# Altium schematic symbol library kmilo17pet-TI_LDO_400_7500.SchLib: 1409 symbols (part 34 of 60)
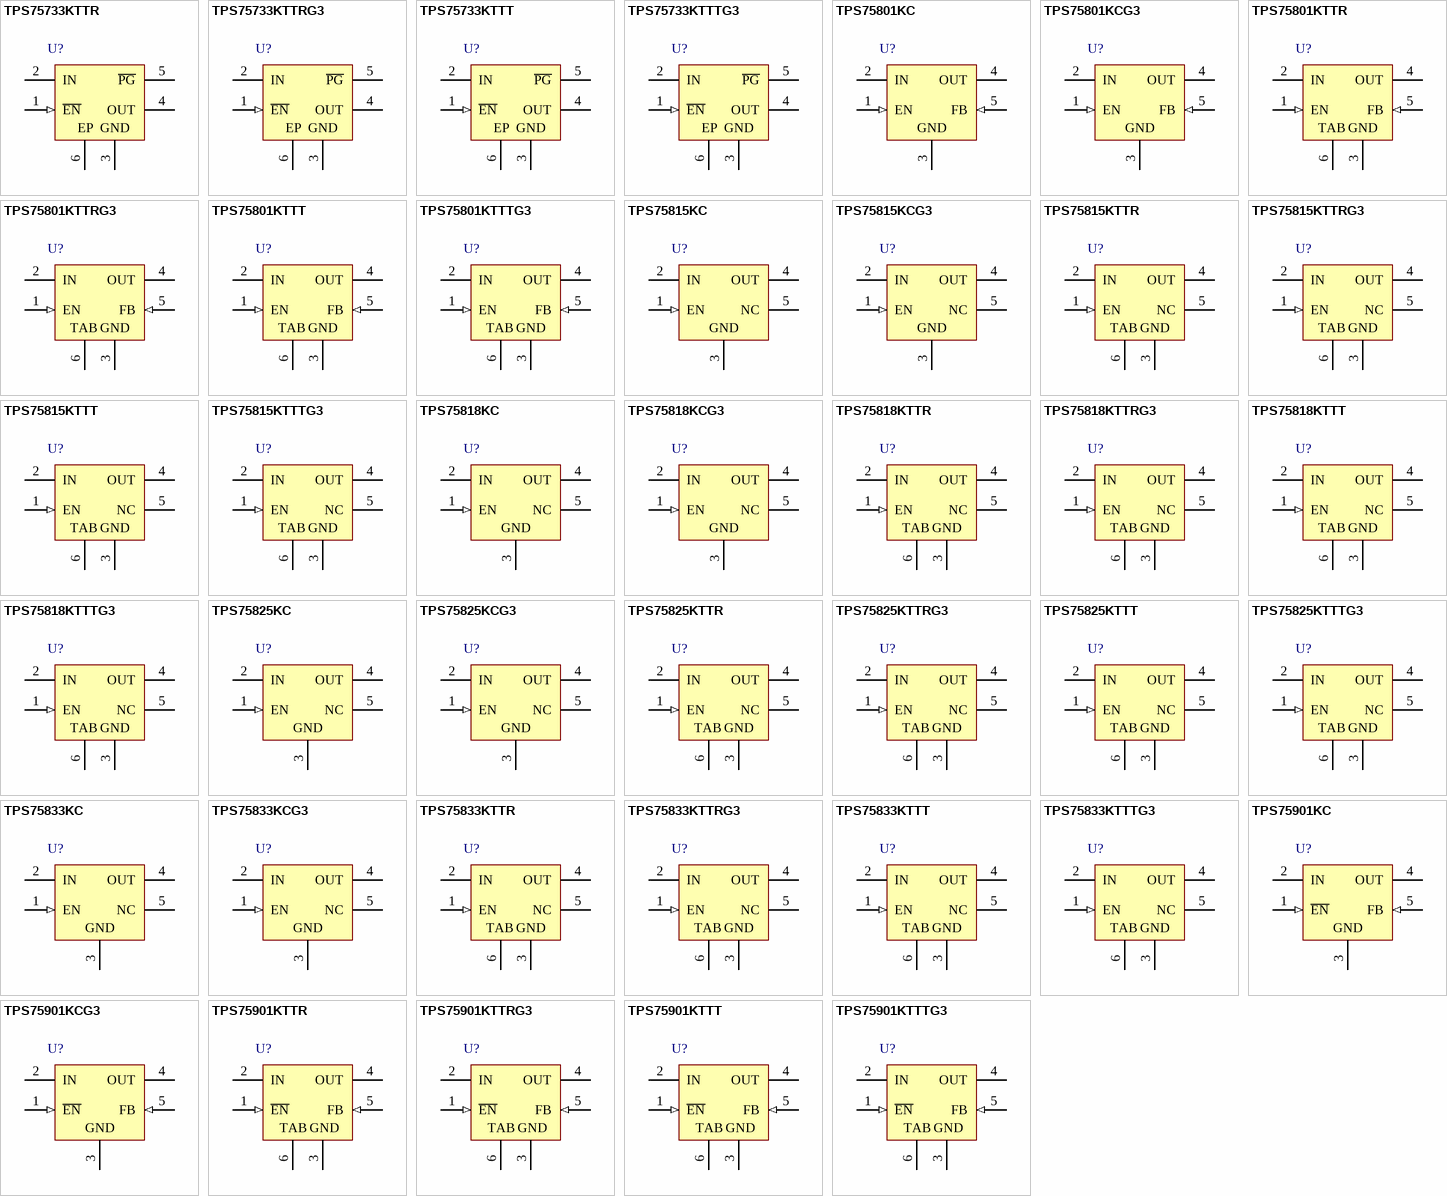
[diagram p83: symbols TPS75733KTTR to TPS75901KTTTG3]

## TPS75825KTTT
designator U?
Single Output Fast Transient Response LDO, 3 A, Fixed 2.5 V Output, 2.8 to 5.5 V Input, with Low IQ, 5-pin DDPAK (KTT), -40 to 125 degC, Green (RoHS & no Sb/Br); Manufacturer: Texas Instruments; PartNumber: TPS75825KTTT; Accuracy(%): 3; Fixed Output Options(V): 2.5; Iq(Typ)(mA): 0.12; SubFamily: Single Channel LDO; Vdo(Typ)(mV): 150; Vin(Max)(V): 5.5; Vin(Min)(V): 2.8; DatasheetVersion: SLVS330F; PackageVersion: 4200577-3/F; PackageReference: KTT5; PackageDescription: 3-Pin Plastic Flange Mount, Body 10.16 x 10.34 mm, Pitch 1.7 mm; Supplier 1: Digi-Key; Supplier Part Number 1: 296-15928-2-ND; Supplier 2: Digi-Key; Supplier Part Number 2: 296-15928-1-ND; Supplier 3: Digi-Key; Supplier Part Number 3: 296-15928-6-ND; Supplier 4: Newark; Supplier Part Number 4: 87H2999; Supplier 5: Mouser; Supplier Part Number 5: 595-TPS75825KTTT; Eco-Plan: Green (RoHS & no Sb/Br); Iout(Max)(A): 3; Vout Adj(Max)(V): 2.5; Vout Adj(Min)(V): 2.5; Mounting Technology: Surface Mount; Code_JEDEC: TO-263; ComponentLink1Description: Manufacturer URL; ComponentLink1URL: http://www.ti.com/; ComponentLink2Description: Datasheet; ComponentLink2URL: http://www.ti.com/general/docs/lit/getliterature.tsp?genericPartNumber=TPS75825&fileType=pdf; ComponentLink3Description: Package Specification; ComponentLink3URL: http://www.ti.com/litv/pdf/mpsf007e
footprint TI-KTT5_N (DPAK, 5-Leads, Body 10.16x8.925mm, Pitch 1.7mm, IPC Medium Density)
footprint TI-KTT5_L (DPAK, 5-Leads, Body 10.16x8.925mm, Pitch 1.7mm, IPC High Density)
footprint TI-KTT5_M (DPAK, 5-Leads, Body 10.16x8.925mm, Pitch 1.7mm, IPC Low Density)
pins: 1 EN (in) "Enable input", 2 IN (power) "Input supply", 3 GND (power) "Ground", 4 OUT (power) "Regulated output voltage; see Output Capacitor section for output capacitor requirements.", 5 NC "Connect to GND or leave open for fixed VOUT devices.", 6 TAB (power)

## TPS75825KTTTG3
designator U?
Single Output Fast Transient Response LDO, 3 A, Fixed 2.5 V Output, 2.8 to 5.5 V Input, with Low IQ, 5-pin DDPAK (KTT), -40 to 125 degC, Green (RoHS & no Sb/Br); Manufacturer: Texas Instruments; PartNumber: TPS75825KTTTG3; Accuracy(%): 3; Fixed Output Options(V): 2.5; Iq(Typ)(mA): 0.12; SubFamily: Single Channel LDO; Vdo(Typ)(mV): 150; Vin(Max)(V): 5.5; Vin(Min)(V): 2.8; DatasheetVersion: SLVS330F; PackageVersion: 4200577-3/F; PackageReference: KTT5; PackageDescription: 3-Pin Plastic Flange Mount, Body 10.16 x 10.34 mm, Pitch 1.7 mm; Supplier 1: Digi-Key; Supplier Part Number 1: TPS75825KTTTG3-ND; Supplier 2: Mouser; Supplier Part Number 2: 595-TPS75825KTTTG3; Eco-Plan: Green (RoHS & no Sb/Br); Iout(Max)(A): 3; Vout Adj(Max)(V): 2.5; Vout Adj(Min)(V): 2.5; Mounting Technology: Surface Mount; Code_JEDEC: TO-263; ComponentLink1Description: Manufacturer URL; ComponentLink1URL: http://www.ti.com/; ComponentLink2Description: Datasheet; ComponentLink2URL: http://www.ti.com/general/docs/lit/getliterature.tsp?genericPartNumber=TPS75825&fileType=pdf; ComponentLink3Description: Package Specification; ComponentLink3URL: http://www.ti.com/litv/pdf/mpsf007e
footprint TI-KTT5_N (DPAK, 5-Leads, Body 10.16x8.925mm, Pitch 1.7mm, IPC Medium Density)
footprint TI-KTT5_L (DPAK, 5-Leads, Body 10.16x8.925mm, Pitch 1.7mm, IPC High Density)
footprint TI-KTT5_M (DPAK, 5-Leads, Body 10.16x8.925mm, Pitch 1.7mm, IPC Low Density)
pins: 1 EN (in) "Enable input", 2 IN (power) "Input supply", 3 GND (power) "Ground", 4 OUT (power) "Regulated output voltage; see Output Capacitor section for output capacitor requirements.", 5 NC "Connect to GND or leave open for fixed VOUT devices.", 6 TAB (power)

## TPS75833KC
designator U?
Single Output Fast Transient Response LDO, 3 A, Fixed 3.3 V Output, 2.8 to 5.5 V Input, with Reverse Current Protection, 5-pin TO-220 (KC), -40 to 85 degC, Green (RoHS & no Sb/Br); Manufacturer: Texas Instruments; PartNumber: TPS75833KC; Accuracy(%): 3; Fixed Output Options(V): 3.3; Iq(Typ)(mA): 0.12; SubFamily: Single Channel LDO; Vdo(Typ)(mV): 150; Vin(Max)(V): 5.5; Vin(Min)(V): 2.8; DatasheetVersion: SLVS330F; PackageVersion: 4040208/F; PackageReference: KC5; PackageDescription: 5-Pin Plastic Flange Mount; Supplier 1: Digi-Key; Supplier Part Number 1: 296-11965-5-ND; Supplier 2: Newark; Supplier Part Number 2: 77C0993; Supplier 3: Mouser; Supplier Part Number 3: 595-TPS75833KC; Eco-Plan: Green (RoHS & no Sb/Br); Iout(Max)(A): 3; Vout Adj(Max)(V): 3.3; Vout Adj(Min)(V): 3.3; Mounting Technology: Through Hole; ComponentLink1Description: Manufacturer URL; ComponentLink1URL: http://www.ti.com/; ComponentLink2Description: Datasheet; ComponentLink2URL: http://www.ti.com/general/docs/lit/getliterature.tsp?genericPartNumber=TPS75825&fileType=pdf; ComponentLink3Description: Package Specification; ComponentLink3URL: http://www.ti.com/litv/pdf/msot008c
footprint TI-KC5 (FM, 5-Leads, Body 10.16x8.46mm, Pitch 1.7mm,)
pins: 1 EN (in) "Enable input", 2 IN (power) "Input supply", 3 GND (power) "Ground", 4 OUT (power) "Regulated output voltage", 5 NC "No connection"

## TPS75833KCG3
designator U?
Single Output Fast Transient Response LDO, 3 A, Fixed 3.3 V Output, 2.8 to 5.5 V Input, with Reverse Current Protection, 5-pin TO-220 (KC), -40 to 85 degC, Green (RoHS & no Sb/Br); Manufacturer: Texas Instruments; PartNumber: TPS75833KCG3; Accuracy(%): 3; Fixed Output Options(V): 3.3; Iq(Typ)(mA): 0.12; SubFamily: Single Channel LDO; Vdo(Typ)(mV): 150; Vin(Max)(V): 5.5; Vin(Min)(V): 2.8; DatasheetVersion: SLVS330F; PackageVersion: 4040208/F; PackageReference: KC5; PackageDescription: 5-Pin Plastic Flange Mount; Supplier 1: Digi-Key; Supplier Part Number 1: TPS75833KCG3-ND; Supplier 2: Mouser; Supplier Part Number 2: 595-TPS75833KCG3; Eco-Plan: Green (RoHS & no Sb/Br); Iout(Max)(A): 3; Vout Adj(Max)(V): 3.3; Vout Adj(Min)(V): 3.3; Mounting Technology: Through Hole; ComponentLink1Description: Manufacturer URL; ComponentLink1URL: http://www.ti.com/; ComponentLink2Description: Datasheet; ComponentLink2URL: http://www.ti.com/general/docs/lit/getliterature.tsp?genericPartNumber=TPS75833&fileType=pdf; ComponentLink3Description: Package Specification; ComponentLink3URL: http://www.ti.com/litv/pdf/msot008c
footprint TI-KC5 (FM, 5-Leads, Body 10.16x8.46mm, Pitch 1.7mm,)
pins: 1 EN (in) "Enable input", 2 IN (power) "Input supply", 3 GND (power) "Ground", 4 OUT (power) "Regulated output voltage", 5 NC "No connection"

## TPS75833KTTR
designator U?
Single Output Fast Transient Response LDO, 3 A, Fixed 3.3 V Output, 2.8 to 5.5 V Input, with Reverse Current Protection, 5-pin DDPAK (KTT), -40 to 85 degC, Green (RoHS & no Sb/Br); Manufacturer: Texas Instruments; PartNumber: TPS75833KTTR; Accuracy(%): 3; Fixed Output Options(V): 3.3; Iq(Typ)(mA): 0.12; SubFamily: Single Channel LDO; Vdo(Typ)(mV): 150; Vin(Max)(V): 5.5; Vin(Min)(V): 2.8; DatasheetVersion: SLVS330F; PackageVersion: 4200577-3/F; PackageReference: KTT5; PackageDescription: 3-Pin Plastic Flange Mount, Body 10.16 x 10.34 mm, Pitch 1.7 mm; Supplier 1: Digi-Key; Supplier Part Number 1: TPS75833KTTR-ND; Supplier 2: Newark; Supplier Part Number 2: 77C0995; Supplier 3: Mouser; Supplier Part Number 3: 595-TPS75833KTTR; Eco-Plan: Green (RoHS & no Sb/Br); Iout(Max)(A): 3; Vout Adj(Max)(V): 3.3; Vout Adj(Min)(V): 3.3; Mounting Technology: Surface Mount; Code_JEDEC: TO-263; ComponentLink1Description: Manufacturer URL; ComponentLink1URL: http://www.ti.com/; ComponentLink2Description: Datasheet; ComponentLink2URL: http://www.ti.com/general/docs/lit/getliterature.tsp?genericPartNumber=TPS75833&fileType=pdf; ComponentLink3Description: Package Specification; ComponentLink3URL: http://www.ti.com/litv/pdf/mpsf007e
footprint TI-KTT5_N (DPAK, 5-Leads, Body 10.16x8.925mm, Pitch 1.7mm, IPC Medium Density)
footprint TI-KTT5_L (DPAK, 5-Leads, Body 10.16x8.925mm, Pitch 1.7mm, IPC High Density)
footprint TI-KTT5_M (DPAK, 5-Leads, Body 10.16x8.925mm, Pitch 1.7mm, IPC Low Density)
pins: 1 EN (in) "Enable input", 2 IN (power) "Input supply", 3 GND (power) "Ground", 4 OUT (power) "Regulated output voltage; see Output Capacitor section for output capacitor requirements.", 5 NC "Connect to GND or leave open for fixed VOUT devices.", 6 TAB "Exposed Thermal Tab"

## TPS75833KTTRG3
designator U?
Single Output Fast Transient Response LDO, 3 A, Fixed 3.3 V Output, 2.8 to 5.5 V Input, with Reverse Current Protection, 5-pin DDPAK (KTT), -40 to 85 degC, Green (RoHS & no Sb/Br); Manufacturer: Texas Instruments; PartNumber: TPS75833KTTRG3; Accuracy(%): 3; Fixed Output Options(V): 3.3; Iq(Typ)(mA): 0.12; SubFamily: Single Channel LDO; Vdo(Typ)(mV): 150; Vin(Max)(V): 5.5; Vin(Min)(V): 2.8; DatasheetVersion: SLVS330F; PackageVersion: 4200577-3/F; PackageReference: KTT5; PackageDescription: 3-Pin Plastic Flange Mount, Body 10.16 x 10.34 mm, Pitch 1.7 mm; Supplier 1: Digi-Key; Supplier Part Number 1: TPS75833KTTRG3-ND; Supplier 2: Mouser; Supplier Part Number 2: 595-TPS75833KTTRG3; Eco-Plan: Green (RoHS & no Sb/Br); Iout(Max)(A): 3; Vout Adj(Max)(V): 3.3; Vout Adj(Min)(V): 3.3; Mounting Technology: Surface Mount; Code_JEDEC: TO-263; ComponentLink1Description: Manufacturer URL; ComponentLink1URL: http://www.ti.com/; ComponentLink2Description: Datasheet; ComponentLink2URL: http://www.ti.com/general/docs/lit/getliterature.tsp?genericPartNumber=TPS75833&fileType=pdf; ComponentLink3Description: Package Specification; ComponentLink3URL: http://www.ti.com/litv/pdf/mpsf007e
footprint TI-KTT5_N (DPAK, 5-Leads, Body 10.16x8.925mm, Pitch 1.7mm, IPC Medium Density)
footprint TI-KTT5_L (DPAK, 5-Leads, Body 10.16x8.925mm, Pitch 1.7mm, IPC High Density)
footprint TI-KTT5_M (DPAK, 5-Leads, Body 10.16x8.925mm, Pitch 1.7mm, IPC Low Density)
pins: 1 EN (in) "Enable input", 2 IN (power) "Input supply", 3 GND (power) "Ground", 4 OUT (power) "Regulated output voltage; see Output Capacitor section for output capacitor requirements.", 5 NC "Connect to GND or leave open for fixed VOUT devices.", 6 TAB "Exposed Thermal Tab"

## TPS75833KTTT
designator U?
Single Output Fast Transient Response LDO, 3 A, Fixed 3.3 V Output, 2.8 to 5.5 V Input, with Reverse Current Protection, 5-pin DDPAK (KTT), -40 to 125 degC, Green (RoHS & no Sb/Br); Manufacturer: Texas Instruments; PartNumber: TPS75833KTTT; Accuracy(%): 3; Fixed Output Options(V): 3.3; Iq(Typ)(mA): 0.12; SubFamily: Single Channel LDO; Vdo(Typ)(mV): 150; Vin(Max)(V): 5.5; Vin(Min)(V): 2.8; DatasheetVersion: SLVS330F; PackageVersion: 4200577-3/F; PackageReference: KTT5; PackageDescription: 3-Pin Plastic Flange Mount, Body 10.16 x 10.34 mm, Pitch 1.7 mm; Supplier 1: Digi-Key; Supplier Part Number 1: 296-15929-2-ND; Supplier 2: Digi-Key; Supplier Part Number 2: 296-15929-1-ND; Supplier 3: Digi-Key; Supplier Part Number 3: 296-15929-6-ND; Supplier 4: Newark; Supplier Part Number 4: 87H3000; Supplier 5: Mouser; Supplier Part Number 5: 595-TPS75833KTTT; Eco-Plan: Green (RoHS & no Sb/Br); Iout(Max)(A): 3; Vout Adj(Max)(V): 3.3; Vout Adj(Min)(V): 3.3; Mounting Technology: Surface Mount; Code_JEDEC: TO-263; ComponentLink1Description: Manufacturer URL; ComponentLink1URL: http://www.ti.com/; ComponentLink2Description: Datasheet; ComponentLink2URL: http://www.ti.com/general/docs/lit/getliterature.tsp?genericPartNumber=TPS75833&fileType=pdf; ComponentLink3Description: Package Specification; ComponentLink3URL: http://www.ti.com/litv/pdf/mpsf007e
footprint TI-KTT5_N (DPAK, 5-Leads, Body 10.16x8.925mm, Pitch 1.7mm, IPC Medium Density)
footprint TI-KTT5_L (DPAK, 5-Leads, Body 10.16x8.925mm, Pitch 1.7mm, IPC High Density)
footprint TI-KTT5_M (DPAK, 5-Leads, Body 10.16x8.925mm, Pitch 1.7mm, IPC Low Density)
pins: 1 EN (in) "Enable input", 2 IN (power) "Input supply", 3 GND (power) "Ground", 4 OUT (power) "Regulated output voltage; see Output Capacitor section for output capacitor requirements.", 5 NC "Connect to GND or leave open for fixed VOUT devices.", 6 TAB "Exposed Thermal Tab"

## TPS75833KTTTG3
designator U?
Single Output Fast Transient Response LDO, 3 A, Fixed 3.3 V Output, 2.8 to 5.5 V Input, with Reverse Current Protection, 5-pin DDPAK (KTT), -40 to 125 degC, Green (RoHS & no Sb/Br); Manufacturer: Texas Instruments; PartNumber: TPS75833KTTTG3; Accuracy(%): 3; Fixed Output Options(V): 3.3; Iq(Typ)(mA): 0.12; SubFamily: Single Channel LDO; Vdo(Typ)(mV): 150; Vin(Max)(V): 5.5; Vin(Min)(V): 2.8; DatasheetVersion: SLVS330F; PackageVersion: 4200577-3/F; PackageReference: KTT5; PackageDescription: 3-Pin Plastic Flange Mount, Body 10.16 x 10.34 mm, Pitch 1.7 mm; Supplier 1: Digi-Key; Supplier Part Number 1: TPS75833KTTTG3-ND; Supplier 2: Mouser; Supplier Part Number 2: 595-TPS75833KTTTG3; Eco-Plan: Green (RoHS & no Sb/Br); Iout(Max)(A): 3; Vout Adj(Max)(V): 3.3; Vout Adj(Min)(V): 3.3; Mounting Technology: Surface Mount; Code_JEDEC: TO-263; ComponentLink1Description: Manufacturer URL; ComponentLink1URL: http://www.ti.com/; ComponentLink2Description: Datasheet; ComponentLink2URL: http://www.ti.com/general/docs/lit/getliterature.tsp?genericPartNumber=TPS75833&fileType=pdf; ComponentLink3Description: Package Specification; ComponentLink3URL: http://www.ti.com/litv/pdf/mpsf007e
footprint TI-KTT5_N (DPAK, 5-Leads, Body 10.16x8.925mm, Pitch 1.7mm, IPC Medium Density)
footprint TI-KTT5_L (DPAK, 5-Leads, Body 10.16x8.925mm, Pitch 1.7mm, IPC High Density)
footprint TI-KTT5_M (DPAK, 5-Leads, Body 10.16x8.925mm, Pitch 1.7mm, IPC Low Density)
pins: 1 EN (in) "Enable input", 2 IN (power) "Input supply", 3 GND (power) "Ground", 4 OUT (power) "Regulated output voltage; see Output Capacitor section for output capacitor requirements.", 5 NC "Connect to GND or leave open for fixed VOUT devices.", 6 TAB "Exposed Thermal Tab"

## TPS75901KC
designator U?
Single Output Fast Transient Response LDO, 7.5 A, Adjustable 1.22 to 5 V Output, 2.8 to 5.5 V Input, 5-pin TO-220 (KC), -40 to 125 degC, Green (RoHS & no Sb/Br); Manufacturer: Texas Instruments; PartNumber: TPS75901KC; Accuracy(%): 3; Iout(Max)(A): 7.5; Iq(Typ)(mA): 0.12; Power Good: TRUE; SubFamily: Single Channel LDO; Vdo(Typ)(mV): 400; Vin(Max)(V): 5.5; Vin(Min)(V): 2.8; Vout Adj(Max)(V): 5; Vout Adj(Min)(V): 1.22; DatasheetVersion: SLVS318E; PackageVersion: 4040208/F; PackageReference: KC5; PackageDescription: 5-Pin Plastic Flange Mount; Supplier 1: Digi-Key; Supplier Part Number 1: 296-12369-5-ND; Supplier 2: Newark; Supplier Part Number 2: 77C0996; Supplier 3: Mouser; Supplier Part Number 3: 595-TPS75901KC; Eco-Plan: Green (RoHS & no Sb/Br); Mounting Technology: Through Hole; ComponentLink1Description: Manufacturer URL; ComponentLink1URL: http://www.ti.com/; ComponentLink2Description: Datasheet; ComponentLink2URL: http://www.ti.com/general/docs/lit/getliterature.tsp?genericPartNumber=TPS75901&fileType=pdf; ComponentLink3Description: Package Specification; ComponentLink3URL: http://www.ti.com/litv/pdf/msot008c
footprint TI-KC5 (FM, 5-Leads, Body 10.16x8.46mm, Pitch 1.7mm,)
pins: 1 ~{EN} (in) "Enable input", 2 IN (power) "Input voltage", 3 GND (power) "Regulator ground", 4 OUT (power) "Regulated output voltage", 5 FB (in) "Feedback input voltage for adjustable device"

## TPS75901KCG3
designator U?
Single Output Fast Transient Response LDO, 7.5 A, Adjustable 1.22 to 5 V Output, 2.8 to 5.5 V Input, 5-pin TO-220 (KC), -40 to 125 degC, Green (RoHS & no Sb/Br); Manufacturer: Texas Instruments; PartNumber: TPS75901KCG3; Accuracy(%): 3; Iout(Max)(A): 7.5; Iq(Typ)(mA): 0.12; Power Good: TRUE; SubFamily: Single Channel LDO; Vdo(Typ)(mV): 400; Vin(Max)(V): 5.5; Vin(Min)(V): 2.8; Vout Adj(Max)(V): 5; Vout Adj(Min)(V): 1.22; DatasheetVersion: SLVS318E; PackageVersion: 4040208/F; PackageReference: KC5; PackageDescription: 5-Pin Plastic Flange Mount; Supplier 1: Digi-Key; Supplier Part Number 1: TPS75901KCG3-ND; Supplier 2: Mouser; Supplier Part Number 2: 595-TPS75901KCG3; Eco-Plan: Green (RoHS & no Sb/Br); Mounting Technology: Through Hole; ComponentLink1Description: Manufacturer URL; ComponentLink1URL: http://www.ti.com/; ComponentLink2Description: Datasheet; ComponentLink2URL: http://www.ti.com/general/docs/lit/getliterature.tsp?genericPartNumber=TPS75901&fileType=pdf; ComponentLink3Description: Package Specification; ComponentLink3URL: http://www.ti.com/litv/pdf/msot008c
footprint TI-KC5 (FM, 5-Leads, Body 10.16x8.46mm, Pitch 1.7mm,)
pins: 1 ~{EN} (in) "Enable input", 2 IN (power) "Input voltage", 3 GND (power) "Regulator ground", 4 OUT (power) "Regulated output voltage", 5 FB (in) "Feedback input voltage for adjustable device"

## TPS75901KTTR
designator U?
Single Output Fast Transient Response LDO, 7.5 A, Adjustable 1.22 to 5 V Output, 2.8 to 5.5 V Input, 5-pin DDPAK (KTT), -40 to 125 degC, Green (RoHS & no Sb/Br); Manufacturer: Texas Instruments; PartNumber: TPS75901KTTR; Accuracy(%): 3; Iout(Max)(A): 7.5; Iq(Typ)(mA): 0.12; Power Good: TRUE; SubFamily: Single Channel LDO; Vdo(Typ)(mV): 400; Vin(Max)(V): 5.5; Vin(Min)(V): 2.8; Vout Adj(Max)(V): 5; Vout Adj(Min)(V): 1.22; DatasheetVersion: SLVS318E; PackageVersion: 4200577-3/F; PackageReference: KTT5; PackageDescription: 3-Pin Plastic Flange Mount, Body 10.16 x 10.34 mm, Pitch 1.7 mm; Supplier 1: Digi-Key; Supplier Part Number 1: 296-29784-2-ND; Supplier 2: Digi-Key; Supplier Part Number 2: 296-29784-1-ND; Supplier 3: Digi-Key; Supplier Part Number 3: 296-29784-6-ND; Supplier 4: Mouser; Supplier Part Number 4: 595-TPS75901KTTR; Eco-Plan: Green (RoHS & no Sb/Br); Mounting Technology: Surface Mount; Code_JEDEC: TO-263; ComponentLink1Description: Manufacturer URL; ComponentLink1URL: http://www.ti.com/; ComponentLink2Description: Datasheet; ComponentLink2URL: http://www.ti.com/general/docs/lit/getliterature.tsp?genericPartNumber=TPS75901&fileType=pdf; ComponentLink3Description: Package Specification; ComponentLink3URL: http://www.ti.com/litv/pdf/mpsf007e
footprint TI-KTT5_N (DPAK, 5-Leads, Body 10.16x8.925mm, Pitch 1.7mm, IPC Medium Density)
footprint TI-KTT5_L (DPAK, 5-Leads, Body 10.16x8.925mm, Pitch 1.7mm, IPC High Density)
footprint TI-KTT5_M (DPAK, 5-Leads, Body 10.16x8.925mm, Pitch 1.7mm, IPC Low Density)
pins: 1 ~{EN} (in) "Enable input", 2 IN (power) "Input voltage", 3 GND (power) "Regulator ground", 4 OUT (power) "Regulated output voltage", 5 FB (in) "Feedback input voltage for adjustable device", 6 TAB (power)

## TPS75901KTTRG3
designator U?
Single Output Fast Transient Response LDO, 7.5 A, Adjustable 1.22 to 5 V Output, 2.8 to 5.5 V Input, 5-pin DDPAK (KTT), -40 to 125 degC, Green (RoHS & no Sb/Br); Manufacturer: Texas Instruments; PartNumber: TPS75901KTTRG3; Accuracy(%): 3; Iout(Max)(A): 7.5; Iq(Typ)(mA): 0.12; Power Good: TRUE; SubFamily: Single Channel LDO; Vdo(Typ)(mV): 400; Vin(Max)(V): 5.5; Vin(Min)(V): 2.8; Vout Adj(Max)(V): 5; Vout Adj(Min)(V): 1.22; DatasheetVersion: SLVS318E; PackageVersion: 4200577-3/F; PackageReference: KTT5; PackageDescription: 3-Pin Plastic Flange Mount, Body 10.16 x 10.34 mm, Pitch 1.7 mm; Supplier 1: Digi-Key; Supplier Part Number 1: TPS75901KTTRG3-ND; Supplier 2: Newark; Supplier Part Number 2: 61K1922; Supplier 3: Mouser; Supplier Part Number 3: 595-TPS75901KTTRG3; Eco-Plan: Green (RoHS & no Sb/Br); Mounting Technology: Surface Mount; Code_JEDEC: TO-263; ComponentLink1Description: Manufacturer URL; ComponentLink1URL: http://www.ti.com/; ComponentLink2Description: Datasheet; ComponentLink2URL: http://www.ti.com/general/docs/lit/getliterature.tsp?genericPartNumber=TPS75901&fileType=pdf; ComponentLink3Description: Package Specification; ComponentLink3URL: http://www.ti.com/litv/pdf/mpsf007e
footprint TI-KTT5_N (DPAK, 5-Leads, Body 10.16x8.925mm, Pitch 1.7mm, IPC Medium Density)
footprint TI-KTT5_L (DPAK, 5-Leads, Body 10.16x8.925mm, Pitch 1.7mm, IPC High Density)
footprint TI-KTT5_M (DPAK, 5-Leads, Body 10.16x8.925mm, Pitch 1.7mm, IPC Low Density)
pins: 1 ~{EN} (in) "Enable input", 2 IN (power) "Input voltage", 3 GND (power) "Regulator ground", 4 OUT (power) "Regulated output voltage", 5 FB (in) "Feedback input voltage for adjustable device", 6 TAB (power)

## TPS75901KTTT
designator U?
Single Output Fast Transient Response LDO, 7.5 A, Adjustable 1.22 to 5 V Output, 2.8 to 5.5 V Input, 5-pin DDPAK (KTT), -40 to 125 degC, Green (RoHS & no Sb/Br); Manufacturer: Texas Instruments; PartNumber: TPS75901KTTT; Accuracy(%): 3; Iout(Max)(A): 7.5; Iq(Typ)(mA): 0.12; Power Good: TRUE; SubFamily: Single Channel LDO; Vdo(Typ)(mV): 400; Vin(Max)(V): 5.5; Vin(Min)(V): 2.8; Vout Adj(Max)(V): 5; Vout Adj(Min)(V): 1.22; DatasheetVersion: SLVS318E; PackageVersion: 4200577-3/F; PackageReference: KTT5; PackageDescription: 3-Pin Plastic Flange Mount, Body 10.16 x 10.34 mm, Pitch 1.7 mm; Supplier 1: Digi-Key; Supplier Part Number 1: 296-15930-2-ND; Supplier 2: Digi-Key; Supplier Part Number 2: 296-15930-1-ND; Supplier 3: Digi-Key; Supplier Part Number 3: 296-15930-6-ND; Supplier 4: Newark; Supplier Part Number 4: 87H3001; Supplier 5: Mouser; Supplier Part Number 5: 595-TPS75901KTTT; Eco-Plan: Green (RoHS & no Sb/Br); Mounting Technology: Surface Mount; Code_JEDEC: TO-263; ComponentLink1Description: Manufacturer URL; ComponentLink1URL: http://www.ti.com/; ComponentLink2Description: Datasheet; ComponentLink2URL: http://www.ti.com/general/docs/lit/getliterature.tsp?genericPartNumber=TPS75901&fileType=pdf; ComponentLink3Description: Package Specification; ComponentLink3URL: http://www.ti.com/litv/pdf/mpsf007e
footprint TI-KTT5_N (DPAK, 5-Leads, Body 10.16x8.925mm, Pitch 1.7mm, IPC Medium Density)
footprint TI-KTT5_L (DPAK, 5-Leads, Body 10.16x8.925mm, Pitch 1.7mm, IPC High Density)
footprint TI-KTT5_M (DPAK, 5-Leads, Body 10.16x8.925mm, Pitch 1.7mm, IPC Low Density)
pins: 1 ~{EN} (in) "Enable input", 2 IN (power) "Input voltage", 3 GND (power) "Regulator ground", 4 OUT (power) "Regulated output voltage", 5 FB (in) "Feedback input voltage for adjustable device", 6 TAB (power)

## TPS75901KTTTG3
designator U?
Single Output Fast Transient Response LDO, 7.5 A, Adjustable 1.22 to 5 V Output, 2.8 to 5.5 V Input, 5-pin DDPAK (KTT), -40 to 125 degC, Green (RoHS & no Sb/Br); Manufacturer: Texas Instruments; PartNumber: TPS75901KTTTG3; Accuracy(%): 3; Iout(Max)(A): 7.5; Iq(Typ)(mA): 0.12; Power Good: TRUE; SubFamily: Single Channel LDO; Vdo(Typ)(mV): 400; Vin(Max)(V): 5.5; Vin(Min)(V): 2.8; Vout Adj(Max)(V): 5; Vout Adj(Min)(V): 1.22; DatasheetVersion: SLVS318E; PackageVersion: 4200577-3/F; PackageReference: KTT5; PackageDescription: 3-Pin Plastic Flange Mount, Body 10.16 x 10.34 mm, Pitch 1.7 mm; Supplier 1: Digi-Key; Supplier Part Number 1: TPS75901KTTTG3-ND; Supplier 2: Mouser; Supplier Part Number 2: 595-TPS75901KTTTG3; Eco-Plan: Green (RoHS & no Sb/Br); Mounting Technology: Surface Mount; Code_JEDEC: TO-263; ComponentLink1Description: Manufacturer URL; ComponentLink1URL: http://www.ti.com/; ComponentLink2Description: Datasheet; ComponentLink2URL: http://www.ti.com/general/docs/lit/getliterature.tsp?genericPartNumber=TPS75901&fileType=pdf; ComponentLink3Description: Package Specification; ComponentLink3URL: http://www.ti.com/litv/pdf/mpsf007e
footprint TI-KTT5_N (DPAK, 5-Leads, Body 10.16x8.925mm, Pitch 1.7mm, IPC Medium Density)
footprint TI-KTT5_L (DPAK, 5-Leads, Body 10.16x8.925mm, Pitch 1.7mm, IPC High Density)
footprint TI-KTT5_M (DPAK, 5-Leads, Body 10.16x8.925mm, Pitch 1.7mm, IPC Low Density)
pins: 1 ~{EN} (in) "Enable input", 2 IN (power) "Input voltage", 3 GND (power) "Regulator ground", 4 OUT (power) "Regulated output voltage", 5 FB (in) "Feedback input voltage for adjustable device", 6 TAB (power)

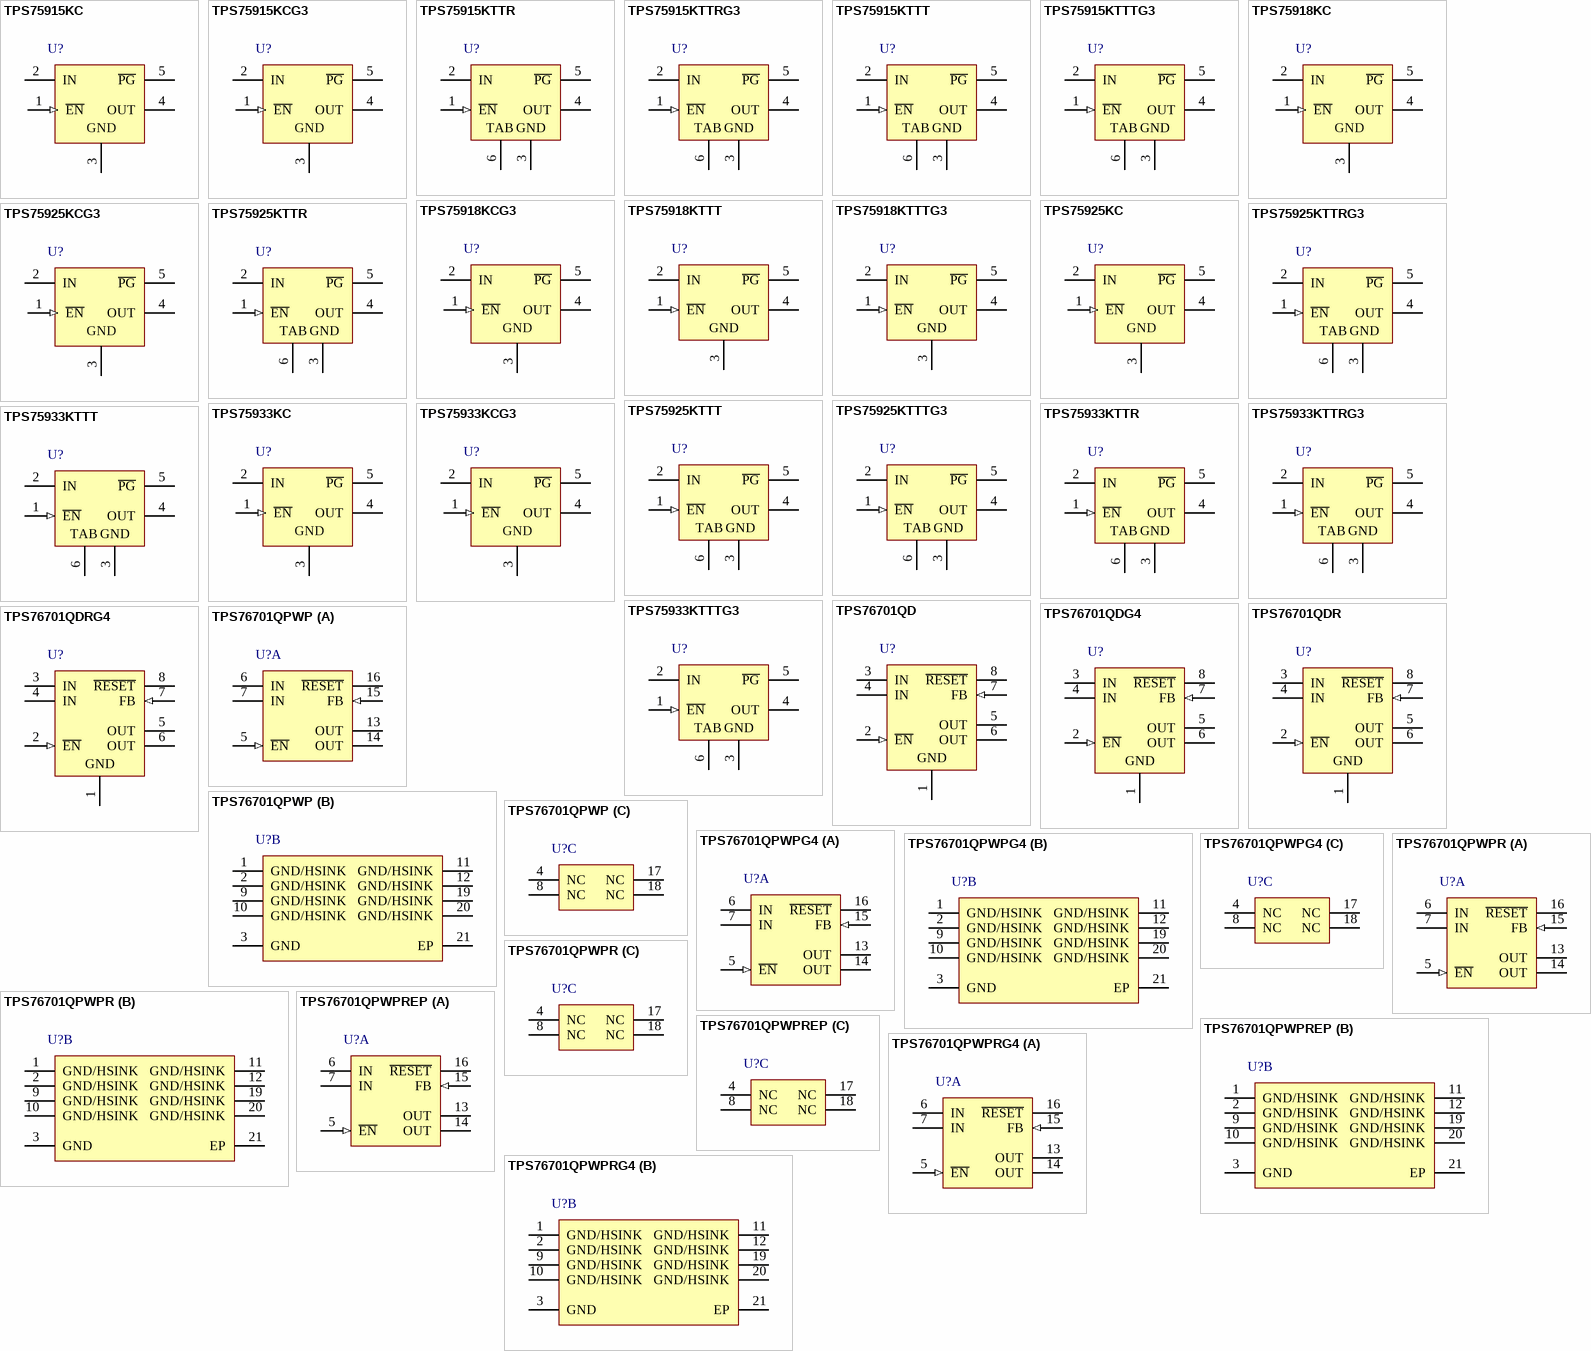
[diagram p27: symbols TPS75915KC to TPS76701QPWPRG4]

## TPS75915KC
designator U?
Single Output Fast Transient Response LDO, 7.5 A, Fixed 1.5 V Output, 2.8 to 5.5 V Input, 5-pin TO-220 (KC), -40 to 125 degC, Green (RoHS & no Sb/Br); Manufacturer: Texas Instruments; PartNumber: TPS75915KC; Accuracy(%): 3; Fixed Output Options(V): 1.5; Iout(Max)(A): 7.5; Iq(Typ)(mA): 0.12; Power Good: TRUE; SubFamily: Single Channel LDO; Vdo(Typ)(mV): 400; Vin(Max)(V): 5.5; Vin(Min)(V): 2.8; DatasheetVersion: SLVS318E; PackageVersion: 4040208/F; PackageReference: KC5; PackageDescription: 5-Pin Plastic Flange Mount; Supplier 1: Digi-Key; Supplier Part Number 1: 296-12371-5-ND; Supplier 2: Newark; Supplier Part Number 2: 77C0999; Supplier 3: Mouser; Supplier Part Number 3: 595-TPS75915KC; Eco-Plan: Green (RoHS & no Sb/Br); Vout Adj(Max)(V): 1.5; Vout Adj(Min)(V): 1.5; Mounting Technology: Through Hole; ComponentLink1Description: Manufacturer URL; ComponentLink1URL: http://www.ti.com/; ComponentLink2Description: Datasheet; ComponentLink2URL: http://www.ti.com/general/docs/lit/getliterature.tsp?genericPartNumber=TPS75915&fileType=pdf; ComponentLink3Description: Package Specification; ComponentLink3URL: http://www.ti.com/litv/pdf/msot008c
footprint TI-KC5 (FM, 5-Leads, Body 10.16x8.46mm, Pitch 1.7mm,)
pins: 1 ~{EN} (in) "Enable input", 2 IN (power) "Input voltage", 3 GND (power) "Regulator ground", 4 OUT (power) "Regulated output voltage", 5 ~{PG} (hiz) "P\G\ output for fixed options"

## TPS75915KCG3
designator U?
Single Output Fast Transient Response LDO, 7.5 A, Fixed 1.5 V Output, 2.8 to 5.5 V Input, 5-pin TO-220 (KC), -40 to 125 degC, Green (RoHS & no Sb/Br); Manufacturer: Texas Instruments; PartNumber: TPS75915KCG3; Accuracy(%): 3; Fixed Output Options(V): 1.5; Iout(Max)(A): 7.5; Iq(Typ)(mA): 0.12; Power Good: TRUE; SubFamily: Single Channel LDO; Vdo(Typ)(mV): 400; Vin(Max)(V): 5.5; Vin(Min)(V): 2.8; DatasheetVersion: SLVS318E; PackageVersion: 4040208/F; PackageReference: KC5; PackageDescription: 5-Pin Plastic Flange Mount; Supplier 1: Digi-Key; Supplier Part Number 1: TPS75915KCG3-ND; Supplier 2: Newark; Supplier Part Number 2: 54K1835; Supplier 3: Mouser; Supplier Part Number 3: 595-TPS75915KCG3; Eco-Plan: Green (RoHS & no Sb/Br); Vout Adj(Max)(V): 1.5; Vout Adj(Min)(V): 1.5; Mounting Technology: Through Hole; ComponentLink1Description: Manufacturer URL; ComponentLink1URL: http://www.ti.com/; ComponentLink2Description: Datasheet; ComponentLink2URL: http://www.ti.com/general/docs/lit/getliterature.tsp?genericPartNumber=TPS75915&fileType=pdf; ComponentLink3Description: Package Specification; ComponentLink3URL: http://www.ti.com/litv/pdf/msot008c
footprint TI-KC5 (FM, 5-Leads, Body 10.16x8.46mm, Pitch 1.7mm,)
pins: 1 ~{EN} (in) "Enable input", 2 IN (power) "Input voltage", 3 GND (power) "Regulator ground", 4 OUT (power) "Regulated output voltage", 5 ~{PG} (hiz) "P\G\ output for fixed options"

## TPS75915KTTR
designator U?
Single Output Fast Transient Response LDO, 7.5 A, Fixed 1.5 V Output, 2.8 to 5.5 V Input, 5-pin DDPAK (KTT), -40 to 125 degC, Green (RoHS & no Sb/Br); Manufacturer: Texas Instruments; PartNumber: TPS75915KTTR; Accuracy(%): 3; Fixed Output Options(V): 1.5; Iout(Max)(A): 7.5; Iq(Typ)(mA): 0.12; Power Good: TRUE; SubFamily: Single Channel LDO; Vdo(Typ)(mV): 400; Vin(Max)(V): 5.5; Vin(Min)(V): 2.8; DatasheetVersion: SLVS318E; PackageVersion: 4200577-3/F; PackageReference: KTT5; PackageDescription: 3-Pin Plastic Flange Mount, Body 10.16 x 10.34 mm, Pitch 1.7 mm; Supplier 1: Digi-Key; Supplier Part Number 1: TPS75915KTTR-ND; Supplier 2: Newark; Supplier Part Number 2: 77C1000; Supplier 3: Mouser; Supplier Part Number 3: 595-TPS75915KTTR; Eco-Plan: Green (RoHS & no Sb/Br); Vout Adj(Max)(V): 1.5; Vout Adj(Min)(V): 1.5; Mounting Technology: Surface Mount; Code_JEDEC: TO-263; ComponentLink1Description: Manufacturer URL; ComponentLink1URL: http://www.ti.com/; ComponentLink2Description: Datasheet; ComponentLink2URL: http://www.ti.com/general/docs/lit/getliterature.tsp?genericPartNumber=TPS75915&fileType=pdf; ComponentLink3Description: Package Specification; ComponentLink3URL: http://www.ti.com/litv/pdf/mpsf007e
footprint TI-KTT5_N (DPAK, 5-Leads, Body 10.16x8.925mm, Pitch 1.7mm, IPC Medium Density)
footprint TI-KTT5_L (DPAK, 5-Leads, Body 10.16x8.925mm, Pitch 1.7mm, IPC High Density)
footprint TI-KTT5_M (DPAK, 5-Leads, Body 10.16x8.925mm, Pitch 1.7mm, IPC Low Density)
pins: 1 ~{EN} (in) "Enable input", 2 IN (power) "Input voltage", 3 GND (power) "Regulator ground", 4 OUT (power) "Regulated output voltage", 5 ~{PG} (hiz) "P\G\ output for fixed options", 6 TAB (power)

## TPS75915KTTRG3
designator U?
Single Output Fast Transient Response LDO, 7.5 A, Fixed 1.5 V Output, 2.8 to 5.5 V Input, 5-pin DDPAK (KTT), -40 to 125 degC, Green (RoHS & no Sb/Br); Manufacturer: Texas Instruments; PartNumber: TPS75915KTTRG3; Accuracy(%): 3; Fixed Output Options(V): 1.5; Iout(Max)(A): 7.5; Iq(Typ)(mA): 0.12; Power Good: TRUE; SubFamily: Single Channel LDO; Vdo(Typ)(mV): 400; Vin(Max)(V): 5.5; Vin(Min)(V): 2.8; DatasheetVersion: SLVS318E; PackageVersion: 4200577-3/F; PackageReference: KTT5; PackageDescription: 3-Pin Plastic Flange Mount, Body 10.16 x 10.34 mm, Pitch 1.7 mm; Supplier 1: Digi-Key; Supplier Part Number 1: TPS75915KTTRG3-ND; Supplier 2: Newark; Supplier Part Number 2: 58K6984; Supplier 3: Mouser; Supplier Part Number 3: 595-TPS75915KTTRG3; Eco-Plan: Green (RoHS & no Sb/Br); Vout Adj(Max)(V): 1.5; Vout Adj(Min)(V): 1.5; Mounting Technology: Surface Mount; Code_JEDEC: TO-263; ComponentLink1Description: Manufacturer URL; ComponentLink1URL: http://www.ti.com/; ComponentLink2Description: Datasheet; ComponentLink2URL: http://www.ti.com/general/docs/lit/getliterature.tsp?genericPartNumber=TPS75915&fileType=pdf; ComponentLink3Description: Package Specification; ComponentLink3URL: http://www.ti.com/litv/pdf/mpsf007e
footprint TI-KTT5_N (DPAK, 5-Leads, Body 10.16x8.925mm, Pitch 1.7mm, IPC Medium Density)
footprint TI-KTT5_L (DPAK, 5-Leads, Body 10.16x8.925mm, Pitch 1.7mm, IPC High Density)
footprint TI-KTT5_M (DPAK, 5-Leads, Body 10.16x8.925mm, Pitch 1.7mm, IPC Low Density)
pins: 1 ~{EN} (in) "Enable input", 2 IN (power) "Input voltage", 3 GND (power) "Regulator ground", 4 OUT (power) "Regulated output voltage", 5 ~{PG} (hiz) "P\G\ output for fixed options", 6 TAB (power)

## TPS75915KTTT
designator U?
Single Output Fast Transient Response LDO, 7.5 A, Fixed 1.5 V Output, 2.8 to 5.5 V Input, 5-pin DDPAK (KTT), -40 to 125 degC, Green (RoHS & no Sb/Br); Manufacturer: Texas Instruments; PartNumber: TPS75915KTTT; Accuracy(%): 3; Fixed Output Options(V): 1.5; Iout(Max)(A): 7.5; Iq(Typ)(mA): 0.12; Power Good: TRUE; SubFamily: Single Channel LDO; Vdo(Typ)(mV): 400; Vin(Max)(V): 5.5; Vin(Min)(V): 2.8; DatasheetVersion: SLVS318E; PackageVersion: 4200577-3/F; PackageReference: KTT5; PackageDescription: 3-Pin Plastic Flange Mount, Body 10.16 x 10.34 mm, Pitch 1.7 mm; Supplier 1: Digi-Key; Supplier Part Number 1: 296-15931-2-ND; Supplier 2: Digi-Key; Supplier Part Number 2: 296-15931-1-ND; Supplier 3: Digi-Key; Supplier Part Number 3: 296-15931-6-ND; Supplier 4: Farnell; Supplier Part Number 4: 1412834; Supplier 5: Newark; Supplier Part Number 5: 87H3002; Supplier 6: Mouser; Supplier Part Number 6: 595-TPS75915KTTT; Eco-Plan: Green (RoHS & no Sb/Br); Vout Adj(Max)(V): 1.5; Vout Adj(Min)(V): 1.5; Mounting Technology: Surface Mount; Code_JEDEC: TO-263; ComponentLink1Description: Manufacturer URL; ComponentLink1URL: http://www.ti.com/; ComponentLink2Description: Datasheet; ComponentLink2URL: http://www.ti.com/general/docs/lit/getliterature.tsp?genericPartNumber=TPS75915&fileType=pdf; ComponentLink3Description: Package Specification; ComponentLink3URL: http://www.ti.com/litv/pdf/mpsf007e
footprint TI-KTT5_N (DPAK, 5-Leads, Body 10.16x8.925mm, Pitch 1.7mm, IPC Medium Density)
footprint TI-KTT5_L (DPAK, 5-Leads, Body 10.16x8.925mm, Pitch 1.7mm, IPC High Density)
footprint TI-KTT5_M (DPAK, 5-Leads, Body 10.16x8.925mm, Pitch 1.7mm, IPC Low Density)
pins: 1 ~{EN} (in) "Enable input", 2 IN (power) "Input voltage", 3 GND (power) "Regulator ground", 4 OUT (power) "Regulated output voltage", 5 ~{PG} (hiz) "P\G\ output for fixed options", 6 TAB (power)

## TPS75915KTTTG3
designator U?
Single Output Fast Transient Response LDO, 7.5 A, Fixed 1.5 V Output, 2.8 to 5.5 V Input, 5-pin DDPAK (KTT), -40 to 125 degC, Green (RoHS & no Sb/Br); Manufacturer: Texas Instruments; PartNumber: TPS75915KTTTG3; Accuracy(%): 3; Fixed Output Options(V): 1.5; Iout(Max)(A): 7.5; Iq(Typ)(mA): 0.12; Power Good: TRUE; SubFamily: Single Channel LDO; Vdo(Typ)(mV): 400; Vin(Max)(V): 5.5; Vin(Min)(V): 2.8; DatasheetVersion: SLVS318E; PackageVersion: 4200577-3/F; PackageReference: KTT5; PackageDescription: 3-Pin Plastic Flange Mount, Body 10.16 x 10.34 mm, Pitch 1.7 mm; Supplier 1: Digi-Key; Supplier Part Number 1: TPS75915KTTTG3-ND; Supplier 2: Newark; Supplier Part Number 2: 73K9633; Supplier 3: Mouser; Supplier Part Number 3: 595-TPS75915KTTTG3; Eco-Plan: Green (RoHS & no Sb/Br); Vout Adj(Max)(V): 1.5; Vout Adj(Min)(V): 1.5; Mounting Technology: Surface Mount; Code_JEDEC: TO-263; ComponentLink1Description: Manufacturer URL; ComponentLink1URL: http://www.ti.com/; ComponentLink2Description: Datasheet; ComponentLink2URL: http://www.ti.com/general/docs/lit/getliterature.tsp?genericPartNumber=TPS75915&fileType=pdf; ComponentLink3Description: Package Specification; ComponentLink3URL: http://www.ti.com/litv/pdf/mpsf007e
footprint TI-KTT5_N (DPAK, 5-Leads, Body 10.16x8.925mm, Pitch 1.7mm, IPC Medium Density)
footprint TI-KTT5_L (DPAK, 5-Leads, Body 10.16x8.925mm, Pitch 1.7mm, IPC High Density)
footprint TI-KTT5_M (DPAK, 5-Leads, Body 10.16x8.925mm, Pitch 1.7mm, IPC Low Density)
pins: 1 ~{EN} (in) "Enable input", 2 IN (power) "Input voltage", 3 GND (power) "Regulator ground", 4 OUT (power) "Regulated output voltage", 5 ~{PG} (hiz) "P\G\ output for fixed options", 6 TAB (power)

## TPS75918KC
designator U?
Single Output Fast Transient Response LDO, 7.5 A, Fixed 1.8 V Output, 2.8 to 5.5 V Input, 5-pin TO-220 (KC), -40 to 125 degC, Green (RoHS & no Sb/Br); Manufacturer: Texas Instruments; PartNumber: TPS75918KC; Accuracy(%): 3; Fixed Output Options(V): 1.8; Iout(Max)(A): 7.5; Iq(Typ)(mA): 0.12; Power Good: TRUE; SubFamily: Single Channel LDO; Vdo(Typ)(mV): 400; Vin(Max)(V): 5.5; Vin(Min)(V): 2.8; DatasheetVersion: SLVS318E; PackageVersion: 4040208/F; PackageReference: KC5; PackageDescription: 5-Pin Plastic Flange Mount; Supplier 1: Digi-Key; Supplier Part Number 1: 296-12373-5-ND; Supplier 2: Mouser; Supplier Part Number 2: 595-TPS75918KC; Eco-Plan: Green (RoHS & no Sb/Br); Vout Adj(Max)(V): 1.8; Vout Adj(Min)(V): 1.8; Mounting Technology: Through Hole; ComponentLink1Description: Manufacturer URL; ComponentLink1URL: http://www.ti.com/; ComponentLink2Description: Datasheet; ComponentLink2URL: http://www.ti.com/general/docs/lit/getliterature.tsp?genericPartNumber=TPS75918&fileType=pdf; ComponentLink3Description: Package Specification; ComponentLink3URL: http://www.ti.com/litv/pdf/msot008c
footprint TI-KC5 (FM, 5-Leads, Body 10.16x8.46mm, Pitch 1.7mm,)
pins: 1 ~{EN} (in) "Enable input", 2 IN (power) "Input voltage", 3 GND (power) "Regulator ground", 4 OUT (power) "Regulated output voltage", 5 ~{PG} (hiz) "P\G\ output for fixed options"

## TPS75918KCG3
designator U?
Single Output Fast Transient Response LDO, 7.5 A, Fixed 1.8 V Output, 2.8 to 5.5 V Input, 5-pin TO-220 (KC), -40 to 125 degC, Green (RoHS & no Sb/Br); Manufacturer: Texas Instruments; PartNumber: TPS75918KCG3; Accuracy(%): 3; Fixed Output Options(V): 1.8; Iout(Max)(A): 7.5; Iq(Typ)(mA): 0.12; Power Good: TRUE; SubFamily: Single Channel LDO; Vdo(Typ)(mV): 400; Vin(Max)(V): 5.5; Vin(Min)(V): 2.8; DatasheetVersion: SLVS318E; PackageVersion: 4040208/F; PackageReference: KC5; PackageDescription: 5-Pin Plastic Flange Mount; Supplier 1: Digi-Key; Supplier Part Number 1: TPS75918KCG3-ND; Supplier 2: Mouser; Supplier Part Number 2: 595-TPS75918KCG3; Eco-Plan: Green (RoHS & no Sb/Br); Vout Adj(Max)(V): 1.8; Vout Adj(Min)(V): 1.8; Mounting Technology: Through Hole; ComponentLink1Description: Manufacturer URL; ComponentLink1URL: http://www.ti.com/; ComponentLink2Description: Datasheet; ComponentLink2URL: http://www.ti.com/general/docs/lit/getliterature.tsp?genericPartNumber=TPS75918&fileType=pdf; ComponentLink3Description: Package Specification; ComponentLink3URL: http://www.ti.com/litv/pdf/msot008c
footprint TI-KC5 (FM, 5-Leads, Body 10.16x8.46mm, Pitch 1.7mm,)
pins: 1 ~{EN} (in) "Enable input", 2 IN (power) "Input voltage", 3 GND (power) "Regulator ground", 4 OUT (power) "Regulated output voltage", 5 ~{PG} (hiz) "P\G\ output for fixed options"

## TPS75918KTTT
designator U?
Single Output Fast Transient Response LDO, 7.5 A, Fixed 1.8 V Output, 2.8 to 5.5 V Input, 5-pin DDPAK (KTT), -40 to 125 degC, Green (RoHS & no Sb/Br); Manufacturer: Texas Instruments; PartNumber: TPS75918KTTT; Accuracy(%): 3; Fixed Output Options(V): 1.8; Iout(Max)(A): 7.5; Iq(Typ)(mA): 0.12; Power Good: TRUE; SubFamily: Single Channel LDO; Vdo(Typ)(mV): 400; Vin(Max)(V): 5.5; Vin(Min)(V): 2.8; DatasheetVersion: SLVS318E; PackageVersion: 4200577-3/F; PackageReference: KTT5; PackageDescription: 3-Pin Plastic Flange Mount, Body 10.16 x 10.34 mm, Pitch 1.7 mm; Supplier 1: Digi-Key; Supplier Part Number 1: 296-15932-2-ND; Supplier 2: Digi-Key; Supplier Part Number 2: 296-15932-1-ND; Supplier 3: Digi-Key; Supplier Part Number 3: 296-15932-6-ND; Supplier 4: Newark; Supplier Part Number 4: 87H3003; Supplier 5: Mouser; Supplier Part Number 5: 595-TPS75918KTTT; Eco-Plan: Green (RoHS & no Sb/Br); Vout Adj(Max)(V): 1.8; Vout Adj(Min)(V): 1.8; Mounting Technology: Surface Mount; Code_JEDEC: TO-263; ComponentLink1Description: Manufacturer URL; ComponentLink1URL: http://www.ti.com/; ComponentLink2Description: Datasheet; ComponentLink2URL: http://www.ti.com/general/docs/lit/getliterature.tsp?genericPartNumber=TPS75918&fileType=pdf; ComponentLink3Description: Package Specification; ComponentLink3URL: http://www.ti.com/litv/pdf/mpsf007e
footprint TI-KTT5_N (DPAK, 5-Leads, Body 10.16x8.925mm, Pitch 1.7mm, IPC Medium Density)
footprint TI-KTT5_L (DPAK, 5-Leads, Body 10.16x8.925mm, Pitch 1.7mm, IPC High Density)
footprint TI-KTT5_M (DPAK, 5-Leads, Body 10.16x8.925mm, Pitch 1.7mm, IPC Low Density)
pins: 1 ~{EN} (in) "Enable input", 2 IN (power) "Input voltage", 3 GND (power) "Regulator ground", 4 OUT (power) "Regulated output voltage", 5 ~{PG} (hiz) "P\G\ output for fixed options"

## TPS75918KTTTG3
designator U?
Single Output Fast Transient Response LDO, 7.5 A, Fixed 1.8 V Output, 2.8 to 5.5 V Input, 5-pin DDPAK (KTT), -40 to 125 degC, Green (RoHS & no Sb/Br); Manufacturer: Texas Instruments; PartNumber: TPS75918KTTTG3; Accuracy(%): 3; Fixed Output Options(V): 1.8; Iout(Max)(A): 7.5; Iq(Typ)(mA): 0.12; Power Good: TRUE; SubFamily: Single Channel LDO; Vdo(Typ)(mV): 400; Vin(Max)(V): 5.5; Vin(Min)(V): 2.8; DatasheetVersion: SLVS318E; PackageVersion: 4200577-3/F; PackageReference: KTT5; PackageDescription: 3-Pin Plastic Flange Mount, Body 10.16 x 10.34 mm, Pitch 1.7 mm; Supplier 1: Digi-Key; Supplier Part Number 1: TPS75918KTTTG3-ND; Supplier 2: Mouser; Supplier Part Number 2: 595-TPS75918KTTTG3; Eco-Plan: Green (RoHS & no Sb/Br); Vout Adj(Max)(V): 1.8; Vout Adj(Min)(V): 1.8; Mounting Technology: Surface Mount; Code_JEDEC: TO-263; ComponentLink1Description: Manufacturer URL; ComponentLink1URL: http://www.ti.com/; ComponentLink2Description: Datasheet; ComponentLink2URL: http://www.ti.com/general/docs/lit/getliterature.tsp?genericPartNumber=TPS75918&fileType=pdf; ComponentLink3Description: Package Specification; ComponentLink3URL: http://www.ti.com/litv/pdf/mpsf007e
footprint TI-KTT5_N (DPAK, 5-Leads, Body 10.16x8.925mm, Pitch 1.7mm, IPC Medium Density)
footprint TI-KTT5_L (DPAK, 5-Leads, Body 10.16x8.925mm, Pitch 1.7mm, IPC High Density)
footprint TI-KTT5_M (DPAK, 5-Leads, Body 10.16x8.925mm, Pitch 1.7mm, IPC Low Density)
pins: 1 ~{EN} (in) "Enable input", 2 IN (power) "Input voltage", 3 GND (power) "Regulator ground", 4 OUT (power) "Regulated output voltage", 5 ~{PG} (hiz) "P\G\ output for fixed options"

## TPS75925KC
designator U?
Single Output Fast Transient Response LDO, 7.5 A, Fixed 2.5 V Output, 2.8 to 5.5 V Input, 5-pin TO-220 (KC), -40 to 125 degC, Green (RoHS & no Sb/Br); Manufacturer: Texas Instruments; PartNumber: TPS75925KC; Accuracy(%): 3; Fixed Output Options(V): 2.5; Iout(Max)(A): 7.5; Iq(Typ)(mA): 0.12; Power Good: TRUE; SubFamily: Single Channel LDO; Vdo(Typ)(mV): 400; Vin(Max)(V): 5.5; Vin(Min)(V): 2.8; DatasheetVersion: SLVS318E; PackageVersion: 4040208/F; PackageReference: KC5; PackageDescription: 5-Pin Plastic Flange Mount; Supplier 1: Digi-Key; Supplier Part Number 1: 296-12375-5-ND; Supplier 2: Newark; Supplier Part Number 2: 77C1004; Supplier 3: Mouser; Supplier Part Number 3: 595-TPS75925KC; Eco-Plan: Green (RoHS & no Sb/Br); Vout Adj(Max)(V): 2.5; Vout Adj(Min)(V): 2.5; Mounting Technology: Through Hole; ComponentLink1Description: Manufacturer URL; ComponentLink1URL: http://www.ti.com/; ComponentLink2Description: Datasheet; ComponentLink2URL: http://www.ti.com/general/docs/lit/getliterature.tsp?genericPartNumber=TPS75925&fileType=pdf; ComponentLink3Description: Package Specification; ComponentLink3URL: http://www.ti.com/litv/pdf/msot008c
footprint TI-KC5 (FM, 5-Leads, Body 10.16x8.46mm, Pitch 1.7mm,)
pins: 1 ~{EN} (in) "Enable input", 2 IN (power) "Input voltage", 3 GND (power) "Regulator ground", 4 OUT (power) "Regulated output voltage", 5 ~{PG} (hiz) "P\G\ output for fixed options"

## TPS75925KCG3
designator U?
Single Output Fast Transient Response LDO, 7.5 A, Fixed 2.5 V Output, 2.8 to 5.5 V Input, 5-pin TO-220 (KC), -40 to 125 degC, Green (RoHS & no Sb/Br); Manufacturer: Texas Instruments; PartNumber: TPS75925KCG3; Accuracy(%): 3; Fixed Output Options(V): 2.5; Iout(Max)(A): 7.5; Iq(Typ)(mA): 0.12; Power Good: TRUE; SubFamily: Single Channel LDO; Vdo(Typ)(mV): 400; Vin(Max)(V): 5.5; Vin(Min)(V): 2.8; DatasheetVersion: SLVS318E; PackageVersion: 4040208/F; PackageReference: KC5; PackageDescription: 5-Pin Plastic Flange Mount; Supplier 1: Digi-Key; Supplier Part Number 1: TPS75925KCG3-ND; Supplier 2: Mouser; Supplier Part Number 2: 595-TPS75925KCG3; Eco-Plan: Green (RoHS & no Sb/Br); Vout Adj(Max)(V): 2.5; Vout Adj(Min)(V): 2.5; Mounting Technology: Through Hole; ComponentLink1Description: Manufacturer URL; ComponentLink1URL: http://www.ti.com/; ComponentLink2Description: Datasheet; ComponentLink2URL: http://www.ti.com/general/docs/lit/getliterature.tsp?genericPartNumber=TPS75925&fileType=pdf; ComponentLink3Description: Package Specification; ComponentLink3URL: http://www.ti.com/litv/pdf/msot008c
footprint TI-KC5 (FM, 5-Leads, Body 10.16x8.46mm, Pitch 1.7mm,)
pins: 1 ~{EN} (in) "Enable input", 2 IN (power) "Input voltage", 3 GND (power) "Regulator ground", 4 OUT (power) "Regulated output voltage", 5 ~{PG} (hiz) "P\G\ output for fixed options"

## TPS75925KTTR
designator U?
Single Output Fast Transient Response LDO, 7.5 A, Fixed 2.5 V Output, 2.8 to 5.5 V Input, 5-pin DDPAK (KTT), -40 to 125 degC; Manufacturer: Texas Instruments; PartNumber: TPS75925KTTR; Accuracy(%): 3; Eco-Plan: Green (RoHS & no Sb/Br); Fixed Output Options(V): 2.5; Iout(Max)(A): 7.5; Iq(Typ)(mA): 0.12; Power Good: TRUE; SubFamily: Single Channel LDO; Vdo(Typ)(mV): 400; Vin(Max)(V): 5.5; Vin(Min)(V): 2.8; DatasheetVersion: SLVS318E; PackageVersion: 4200577-3/F; PackageReference: KTT5; PackageDescription: 3-Pin Plastic Flange Mount, Body 10.16 x 10.34 mm, Pitch 1.7 mm; Supplier 1: Digi-Key; Supplier Part Number 1: TPS75925KTTR-ND; Supplier 2: Newark; Supplier Part Number 2: 77C1006; Supplier 3: Mouser; Supplier Part Number 3: 595-TPS75925KTTR; Vout Adj(Max)(V): 2.5; Vout Adj(Min)(V): 2.5; Mounting Technology: Surface Mount; Code_JEDEC: TO-263; ComponentLink1Description: Manufacturer URL; ComponentLink1URL: http://www.ti.com/; ComponentLink2Description: Datasheet; ComponentLink2URL: http://www.ti.com/general/docs/lit/getliterature.tsp?genericPartNumber=TPS75925&fileType=pdf; ComponentLink3Description: Package Specification; ComponentLink3URL: http://www.ti.com/litv/pdf/mpsf007e
footprint TI-KTT5_N (DPAK, 5-Leads, Body 10.16x8.925mm, Pitch 1.7mm, IPC Medium Density)
footprint TI-KTT5_L (DPAK, 5-Leads, Body 10.16x8.925mm, Pitch 1.7mm, IPC High Density)
footprint TI-KTT5_M (DPAK, 5-Leads, Body 10.16x8.925mm, Pitch 1.7mm, IPC Low Density)
pins: 1 ~{EN} (in) "Enable input", 2 IN (power) "Input voltage", 3 GND (power) "Regulator ground", 4 OUT (power) "Regulated output voltage", 5 ~{PG} (hiz) "P\G\ output for fixed options", 6 TAB (power) "Exposed thermal tab"

## TPS75925KTTRG3
designator U?
Single Output Fast Transient Response LDO, 7.5 A, Fixed 2.5 V Output, 2.8 to 5.5 V Input, 5-pin DDPAK (KTT), -40 to 125 degC; Manufacturer: Texas Instruments; PartNumber: TPS75925KTTRG3; Accuracy(%): 3; Eco-Plan: Green (RoHS & no Sb/Br); Fixed Output Options(V): 2.5; Iout(Max)(A): 7.5; Iq(Typ)(mA): 0.12; Power Good: TRUE; SubFamily: Single Channel LDO; Vdo(Typ)(mV): 400; Vin(Max)(V): 5.5; Vin(Min)(V): 2.8; DatasheetVersion: SLVS318E; PackageVersion: 4200577-3/F; PackageReference: KTT5; PackageDescription: 3-Pin Plastic Flange Mount, Body 10.16 x 10.34 mm, Pitch 1.7 mm; Supplier 1: Digi-Key; Supplier Part Number 1: TPS75925KTTRG3-ND; Supplier 2: Mouser; Supplier Part Number 2: 595-TPS75925KTTRG3; Vout Adj(Max)(V): 2.5; Vout Adj(Min)(V): 2.5; Mounting Technology: Surface Mount; Code_JEDEC: TO-263; ComponentLink1Description: Manufacturer URL; ComponentLink1URL: http://www.ti.com/; ComponentLink2Description: Datasheet; ComponentLink2URL: http://www.ti.com/general/docs/lit/getliterature.tsp?genericPartNumber=TPS75925&fileType=pdf; ComponentLink3Description: Package Specification; ComponentLink3URL: http://www.ti.com/litv/pdf/mpsf007e
footprint TI-KTT5_N (DPAK, 5-Leads, Body 10.16x8.925mm, Pitch 1.7mm, IPC Medium Density)
footprint TI-KTT5_L (DPAK, 5-Leads, Body 10.16x8.925mm, Pitch 1.7mm, IPC High Density)
footprint TI-KTT5_M (DPAK, 5-Leads, Body 10.16x8.925mm, Pitch 1.7mm, IPC Low Density)
pins: 1 ~{EN} (in) "Enable input", 2 IN (power) "Input voltage", 3 GND (power) "Regulator ground", 4 OUT (power) "Regulated output voltage", 5 ~{PG} (hiz) "P\G\ output for fixed options", 6 TAB (power) "Exposed thermal tab"

## TPS75925KTTT
designator U?
Single Output Fast Transient Response LDO, 7.5 A, Fixed 2.5 V Output, 2.8 to 5.5 V Input, 5-pin DDPAK (KTT), -40 to 125 degC, Green (RoHS & no Sb/Br); Manufacturer: Texas Instruments; PartNumber: TPS75925KTTT; Accuracy(%): 3; Fixed Output Options(V): 2.5; Iout(Max)(A): 7.5; Iq(Typ)(mA): 0.12; Power Good: TRUE; SubFamily: Single Channel LDO; Vdo(Typ)(mV): 400; Vin(Max)(V): 5.5; Vin(Min)(V): 2.8; DatasheetVersion: SLVS318E; PackageVersion: 4200577-3/F; PackageReference: KTT5; PackageDescription: 3-Pin Plastic Flange Mount, Body 10.16 x 10.34 mm, Pitch 1.7 mm; Supplier 1: Digi-Key; Supplier Part Number 1: 296-15933-2-ND; Supplier 2: Digi-Key; Supplier Part Number 2: 296-15933-1-ND; Supplier 3: Digi-Key; Supplier Part Number 3: 296-15933-6-ND; Supplier 4: Newark; Supplier Part Number 4: 87H3004; Supplier 5: Mouser; Supplier Part Number 5: 595-TPS75925KTTT; Eco-Plan: Green (RoHS & no Sb/Br); Vout Adj(Max)(V): 2.5; Vout Adj(Min)(V): 2.5; Mounting Technology: Surface Mount; Code_JEDEC: TO-263; ComponentLink1Description: Manufacturer URL; ComponentLink1URL: http://www.ti.com/; ComponentLink2Description: Datasheet; ComponentLink2URL: http://www.ti.com/general/docs/lit/getliterature.tsp?genericPartNumber=TPS75925&fileType=pdf; ComponentLink3Description: Package Specification; ComponentLink3URL: http://www.ti.com/litv/pdf/mpsf007e
footprint TI-KTT5_N (DPAK, 5-Leads, Body 10.16x8.925mm, Pitch 1.7mm, IPC Medium Density)
footprint TI-KTT5_L (DPAK, 5-Leads, Body 10.16x8.925mm, Pitch 1.7mm, IPC High Density)
footprint TI-KTT5_M (DPAK, 5-Leads, Body 10.16x8.925mm, Pitch 1.7mm, IPC Low Density)
pins: 1 ~{EN} (in) "Enable input", 2 IN (power) "Input voltage", 3 GND (power) "Regulator ground", 4 OUT (power) "Regulated output voltage", 5 ~{PG} (hiz) "P\G\ output for fixed options", 6 TAB (power) "Exposed thermal tab"

## TPS75925KTTTG3
designator U?
Single Output Fast Transient Response LDO, 7.5 A, Fixed 2.5 V Output, 2.8 to 5.5 V Input, 5-pin DDPAK (KTT), -40 to 125 degC, Green (RoHS & no Sb/Br); Manufacturer: Texas Instruments; PartNumber: TPS75925KTTTG3; Accuracy(%): 3; Fixed Output Options(V): 2.5; Iout(Max)(A): 7.5; Iq(Typ)(mA): 0.12; Power Good: TRUE; SubFamily: Single Channel LDO; Vdo(Typ)(mV): 400; Vin(Max)(V): 5.5; Vin(Min)(V): 2.8; DatasheetVersion: SLVS318E; PackageVersion: 4200577-3/F; PackageReference: KTT5; PackageDescription: 3-Pin Plastic Flange Mount, Body 10.16 x 10.34 mm, Pitch 1.7 mm; Supplier 1: Digi-Key; Supplier Part Number 1: TPS75925KTTTG3-ND; Supplier 2: Mouser; Supplier Part Number 2: 595-TPS75925KTTTG3; Eco-Plan: Green (RoHS & no Sb/Br); Vout Adj(Max)(V): 2.5; Vout Adj(Min)(V): 2.5; Mounting Technology: Surface Mount; Code_JEDEC: TO-263; ComponentLink1Description: Manufacturer URL; ComponentLink1URL: http://www.ti.com/; ComponentLink2Description: Datasheet; ComponentLink2URL: http://www.ti.com/general/docs/lit/getliterature.tsp?genericPartNumber=TPS75925&fileType=pdf; ComponentLink3Description: Package Specification; ComponentLink3URL: http://www.ti.com/litv/pdf/mpsf007e
footprint TI-KTT5_N (DPAK, 5-Leads, Body 10.16x8.925mm, Pitch 1.7mm, IPC Medium Density)
footprint TI-KTT5_L (DPAK, 5-Leads, Body 10.16x8.925mm, Pitch 1.7mm, IPC High Density)
footprint TI-KTT5_M (DPAK, 5-Leads, Body 10.16x8.925mm, Pitch 1.7mm, IPC Low Density)
pins: 1 ~{EN} (in) "Enable input", 2 IN (power) "Input voltage", 3 GND (power) "Regulator ground", 4 OUT (power) "Regulated output voltage", 5 ~{PG} (hiz) "P\G\ output for fixed options", 6 TAB (power) "Exposed thermal tab"